# Altium footprint library ARM_Libary_AUDIO.PcbLib: 11 footprints
Each footprint in its own frame and in the unit in brackets; x right, y up, seen from the top. Pads: shape width x height; smd on the part's side, far side on the other; paste and mask are expansions set on the pad; w line width, h text height; cw(c..) or ccw(c..) is an arc to the next point about the centre after c.
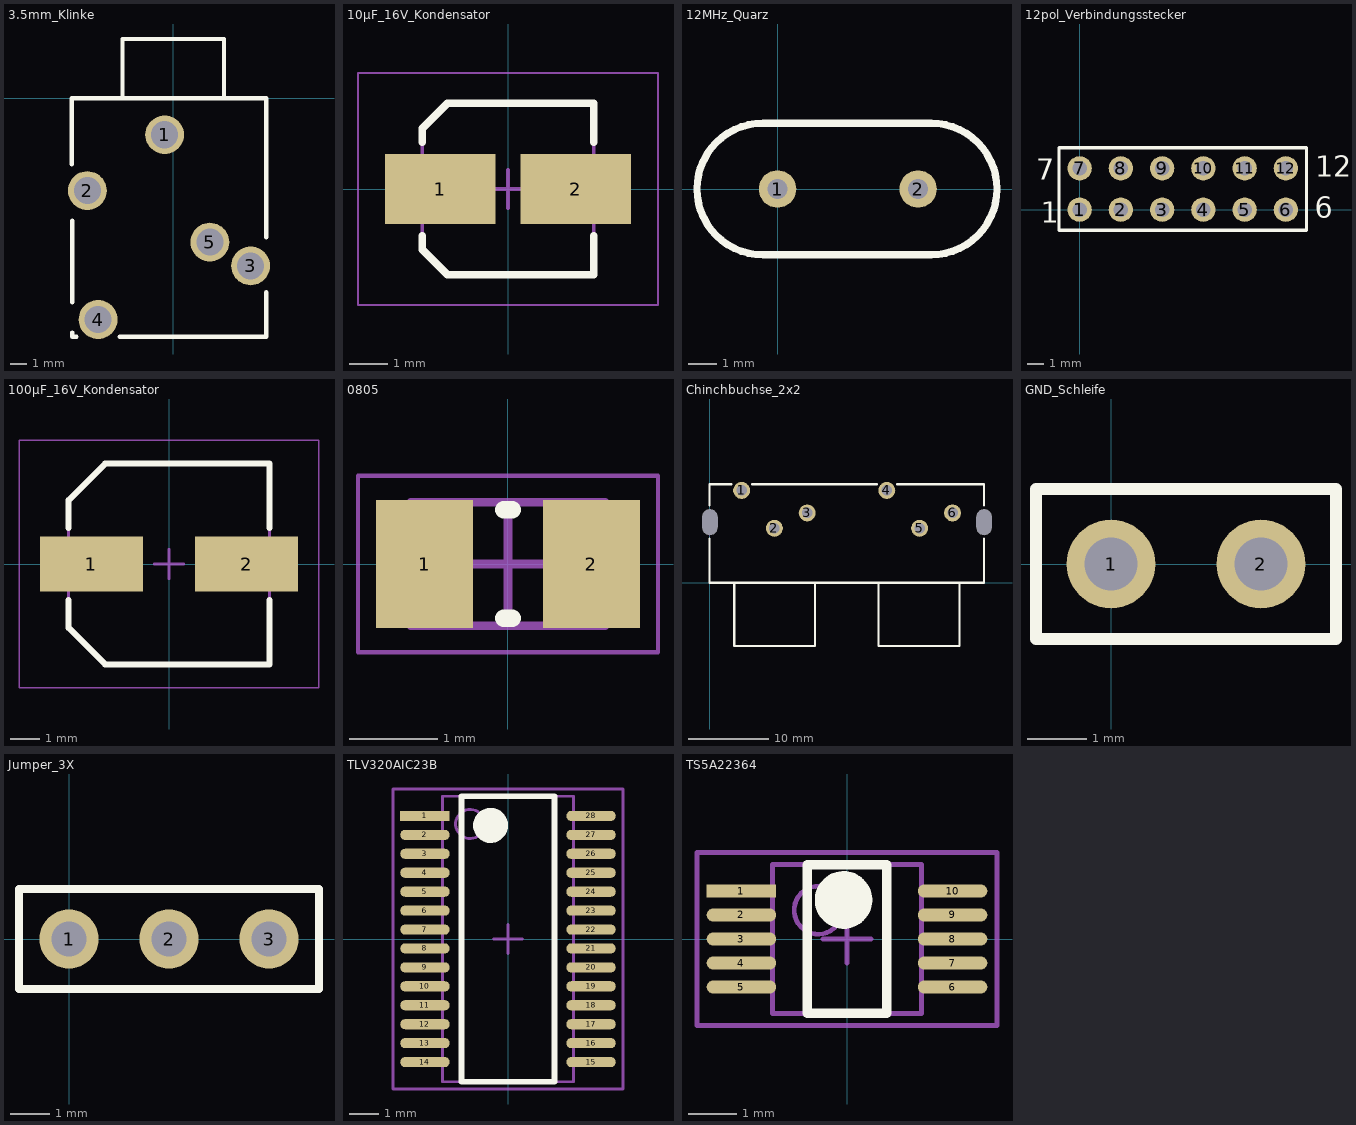
[diagram p0: the footprints below, top view; thin cyan lines are the x and y axes]

## 3.5mm_Klinke [mm]
pads (5):
  round 2.3 hole 1.6: 1(-0.508,-2.159) 2(-5.08,-5.461) 3(4.572,-9.906) 4(-4.445,-13.081) 5(2.159,-8.509)
Top Overlay:
  lines w0.254: -6,-3.906 -6,0 0,0 5.5,0 5.5,-8.216 ; -5.969,-13.843 -5.969,-14.1 -5.718,-14.1 ; -5.969,-12.065 -5.969,-7.239 ; -3.172,-14.1 5.5,-14.1 5.5,-11.469 ; -3,0 -3,3.5 3,3.5 3,0

## 10µF_16V_Kondensator [mm]
pads (2):
  rect 2.9x1.85 smd: 1(-1.775,0) 2(1.775,0)
Top Overlay:
  lines w0.2: -2.25,-1.225 -2.25,-1.587 -1.587,-2.25 2.25,-2.25 2.25,-1.225 ; -2.25,1.225 -2.25,1.587 -1.587,2.25 2.25,2.25 2.25,1.225
Mechanical 13:
  lines w0.1: -2.25,-1.587 -1.587,-2.25 2.25,-2.25 2.25,2.25 -1.587,2.25 -2.25,1.587 -2.25,-1.587
Mechanical 15:
  lines w0.05: -3.937,-3.048 -3.937,3.048 3.937,3.048 3.937,-3.048 -3.937,-3.048
  lines w0.1: -0.5,0 0.5,0 ; 0,-0.5 0,0.5
3D body: height 2.1, standoff 0, extent -2.25,-2.25 2.25,2.25
3D body: height 6.3, standoff 0, extent -2.25,-2.25 2.232,2.241

## 12MHz_Quarz [mm]
pads (2):
  round 1.3 hole 0.7: 1(0,0) 2(4.88,0)
Top Overlay:
  lines w0.254: -0.508,-2.286 cw(c-0.512,0) -0.508,2.286 5.334,2.286 cw(c5.335,0) 5.334,-2.286 -0.508,-2.286

## 12pol_Verbindungsstecker [mm]
pads (12):
  round 1.5 hole 0.9: 1(0,0) 2(2.54,0) 3(5.08,0) 4(7.62,0) 5(10.16,0) 6(12.7,0) 7(0,2.54) 8(2.54,2.54) 9(5.08,2.54) 10(7.62,2.54) 11(10.16,2.54) 12(12.7,2.54)
Top Overlay:
  lines w0.2: -1.27,-1.27 -1.27,3.81 13.97,3.81 13.97,-1.27 -1.27,-1.27
  text "7" at -2.683,1.854 h1.27
  text "1" at -2.403,-0.813 h1.27
  text "6" at 14.462,-0.508 h1.27
  text "12" at 14.513,2.032 h1.27

## 100µF_16V_Kondensator [mm]
pads (2):
  rect 3.5x1.85 smd: 1(-2.625,0) 2(2.625,0)
Top Overlay:
  lines w0.2: -3.4,-1.225 -3.4,-2.163 -2.163,-3.4 3.4,-3.4 3.4,-1.225 ; -3.4,1.225 -3.4,2.163 -2.163,3.4 3.4,3.4 3.4,1.225
Mechanical 13:
  lines w0.1: -3.4,-2.163 -2.163,-3.4 3.4,-3.4 3.4,3.4 -2.163,3.4 -3.4,2.163 -3.4,-2.163
Mechanical 15:
  lines w0.05: -5.08,-4.191 -5.08,4.191 5.08,4.191 5.08,-4.191 -5.08,-4.191
  lines w0.1: -0.5,0 0.5,0 ; 0,-0.5 0,0.5
3D body: height 2.1, standoff 0, extent -3.4,-3.4 3.4,3.4
3D body: height 6.3, standoff 0, extent -3.15,-3.15 3.125,3.138

## 0805 [mm]
pads (2):
  rect 1.1x1.45 smd: 1(-0.945,0) 2(0.945,0)
Top Overlay:
  lines w0.2: -0.05,-0.615 0.05,-0.615 ; -0.05,0.615 0.05,0.615
Mechanical 13:
  lines w0.1: -1.1,-0.7 -1.1,0.7 1.1,0.7 1.1,-0.7 -1.1,-0.7
Mechanical 15:
  lines w0.05: -1.7,-1 -1.7,1 1.7,1 1.7,-1 -1.7,-1
  lines w0.1: -0.5,0 0.5,0 ; 0,-0.5 0,0.5
3D body: height 0.6, standoff 0, extent -0.72,-0.7 0.72,0.7
3D body: height 0.6, standoff 0, extent -1.1,-0.7 -0.72,0.7
3D body: height 0.6, standoff 0, extent 0.72,-0.7 1.1,0.7

## Chinchbuchse_2x2 [mm]
pads (8):
  round 2.1 hole 1.3: 1(3.937,11.43) 2(8.001,6.731) 3(12.065,8.636) 4(21.946,11.43) 5(26.01,6.731) 6(30.099,8.636)
  round 0 hole 1.9 slot 3.2 at 90 deg: ""(0,7.493) ""(34.011,7.493)
Top Overlay:
  lines w0.254: -0.025,5.461 -0.025,-0.025 34.011,-0.025 34.011,5.461 ; -0.025,9.55 -0.025,12.192 2.667,12.192 ; 3.023,-0.025 3.023,-7.874 13.056,-7.874 13.056,-0.025 ; 5.207,12.192 20.701,12.192 ; 20.93,-0.025 20.93,-7.874 30.963,-7.874 30.963,-0.025 ; 23.241,12.192 34.011,12.192 34.011,9.55

## GND_Schleife [mm]
pads (2):
  round 1.5 hole 0.9: 1(0,0) 2(2.54,0)
Top Overlay:
  lines w0.2: -1.27,-1.27 3.81,-1.27 3.81,1.27 -1.27,1.27 -1.27,-1.27

## Jumper_3X [mm]
pads (3):
  round 1.5 hole 0.9: 1(0,0) 2(2.54,0) 3(5.08,0)
Top Overlay:
  lines w0.2: -1.27,-1.27 6.35,-1.27 6.35,1.27 -1.27,1.27 -1.27,-1.27

## TLV320AIC23B [mm]
pads (28):
  rect 1.7x0.35 smd: 1(-2.85,4.225)
  oval 1.7x0.35 smd: 2(-2.85,3.575) 3(-2.85,2.925) 4(-2.85,2.275) 5(-2.85,1.625) 6(-2.85,0.975) 7(-2.85,0.325) 8(-2.85,-0.325) 9(-2.85,-0.975) 10(-2.85,-1.625) 11(-2.85,-2.275) 12(-2.85,-2.925) 13(-2.85,-3.575) 14(-2.85,-4.225) 15(2.85,-4.225) 16(2.85,-3.575) 17(2.85,-2.925) 18(2.85,-2.275) 19(2.85,-1.625) 20(2.85,-0.975) 21(2.85,-0.325) 22(2.85,0.325) 23(2.85,0.975) 24(2.85,1.625) 25(2.85,2.275) 26(2.85,2.925) 27(2.85,3.575) 28(2.85,4.225)
Top Overlay:
  circle w0.6: c-0.6,3.9 r0.3
  lines w0.2: -1.6,-4.9 -1.6,4.9 1.6,4.9 1.6,-4.9 -1.6,-4.9
Mechanical 13:
  circle w0.1: c-1.3,3.95 r0.5
  lines w0.1: -2.25,-4.9 -2.25,4.9 2.25,4.9 2.25,-4.9 -2.25,-4.9
Mechanical 15:
  lines w0.1: -0.5,0 0.5,0 ; 0,-0.5 0,0.5 ; -3.95,-5.15 -3.95,5.15 3.95,5.15 3.95,-5.15 -3.95,-5.15
3D body: height 1.2, standoff 0.05, extent -2.25,-4.9 2.25,4.9

## TS5A22364 [mm]
pads (10):
  rect 1.45x0.274 smd: 1(-2.2,1)
  oval 1.45x0.274 smd: 2(-2.2,0.5) 3(-2.2,0) 4(-2.2,-0.5) 5(-2.2,-1) 6(2.2,-1) 7(2.2,-0.5) 8(2.2,0) 9(2.2,0.5) 10(2.2,1)
Top Overlay:
  circle w0.6: c-0.071,0.813 r0.3
  lines w0.2: -0.825,-1.55 0.825,-1.55 0.825,1.55 -0.825,1.55 -0.825,-1.55
Mechanical 13:
  circle w0.1: c-0.6,0.6 r0.5
  lines w0.1: -1.55,-1.55 1.55,-1.55 1.55,1.55 -1.55,1.55 -1.55,-1.55
Mechanical 15:
  lines w0.1: -0.5,0 0.5,0 ; 0,-0.5 0,0.5 ; -3.125,-1.8 3.125,-1.8 3.125,1.8 -3.125,1.8 -3.125,-1.8
3D body: height 1.1, standoff 0.05, extent -1.55,-1.55 1.55,1.55